# EAGLE library part FT245R (library Parts)
FT245R - USB FIFO IC Datasheet <https://www.ftdichip.com/Support/Documents/DataSheets/ICs/DS_FT245R.pdf>
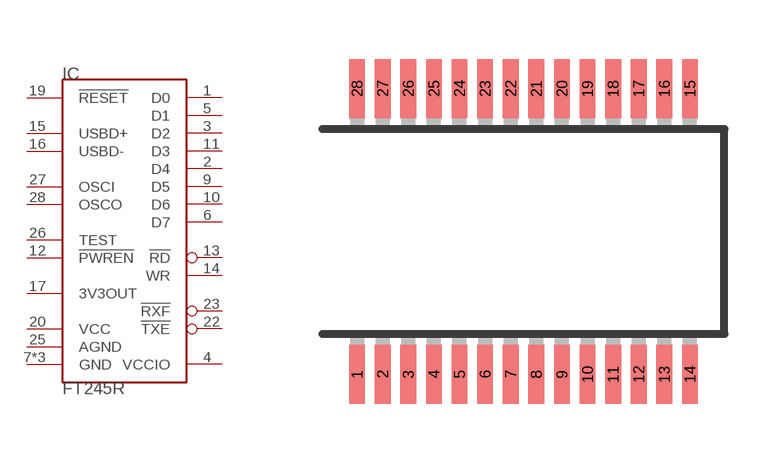
[diagram p8: symbol with the pads of SSOP28; footprint SSOP28]

Designator prefix IC

## FT245RSSOP-28 (MOUSER: 895-FT245RL)  [SSOP28]
1  D0
2  D4
3  D2
4  VCCIO  pwr
5  D1
6  D7
7  GND  pwr
9  D5
10  D6
11  D3
12  !PWREN  out
13  !RD  in
14  WR  in
15  USBD+
16  USBD-
17  3V3OUT  out
18  GND  pwr
19  !RESET  in
20  VCC  pwr
21  GND  pwr
22  !TXE  out
23  !RXF  out
25  AGND  pwr
26  TEST  in
27  OSCI
28  OSCO

## Footprint SSOP28 (pad centres in mm)
Shrink Small Outline Package package type SS
smd 0.4 x 1.5: 1 -4.225,-3.625; 2 -3.575,-3.625; 3 -2.925,-3.625; 4 -2.275,-3.625; 5 -1.625,-3.625; 6 -0.975,-3.625; 7 -0.325,-3.625; 8 0.325,-3.625; 9 0.975,-3.625; 10 1.625,-3.625; 11 2.275,-3.625; 12 2.925,-3.625; 13 3.575,-3.625; 14 4.225,-3.625; 15 4.225,3.625; 16 3.575,3.625; 17 2.925,3.625; 18 2.275,3.625; 19 1.625,3.625; 20 0.975,3.625; 21 0.325,3.625; 22 -0.325,3.625; 23 -0.975,3.625; 24 -1.625,3.625; 25 -2.275,3.625; 26 -2.925,3.625; 27 -3.575,3.625; 28 -4.225,3.625